# Altium footprint library 3098_Coin_Cell_Retainer.PcbLib: 1 footprints
Each footprint in its own frame and in the unit in brackets; x right, y up, seen from the top. Pads: shape width x height; smd on the part's side, far side on the other; paste and mask are expansions set on the pad; w line width, h text height; cw(c..) or ccw(c..) is an arc to the next point about the centre after c.
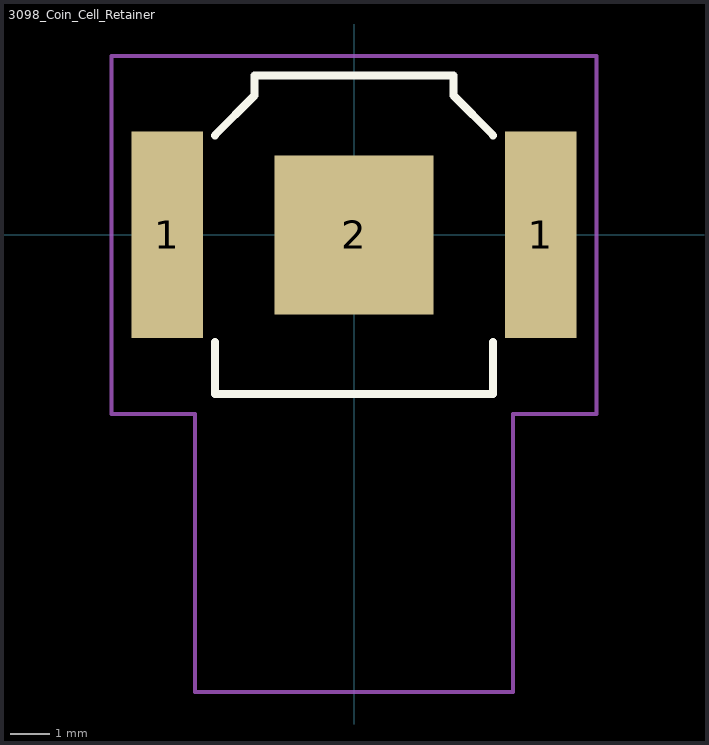
[diagram p0: the footprint, top view; thin cyan lines are the x and y axes]

## 3098_Coin_Cell_Retainer [mm]
pads (3):
  rect 1.8x5.2 smd: 1(-4.7,0) 1(4.7,0)
  rect 4x4 smd paste-4: 2(0,0)
Top Overlay:
  lines w0.2: -3.5,-2.7 -3.5,-4 3.5,-4 3.5,-2.7 ; -3.5,2.5 -2.5,3.5 -2.5,4 2.5,4 2.5,3.5 3.5,2.5
Top Courtyard:
  lines w0.1: -6.1,-4.5 -4,-4.5 -4,-11.5 4,-11.5 4,-4.5 6.1,-4.5 6.1,4.5 -6.1,4.5 -6.1,-4.5
3D body "3098--3DModel-STEP-630548.STEP": height 3.1, standoff 0.06, extent -5.357,-4.001 5.357,4